# Altium footprint library HT3.96.PcbLib: 56 footprints (part 1 of 4)
Each footprint in its own frame and in the unit in brackets; x right, y up, seen from the top. Pads: shape width x height; smd on the part's side, far side on the other; paste and mask are expansions set on the pad; w line width, h text height; cw(c..) or ccw(c..) is an arc to the next point about the centre after c.
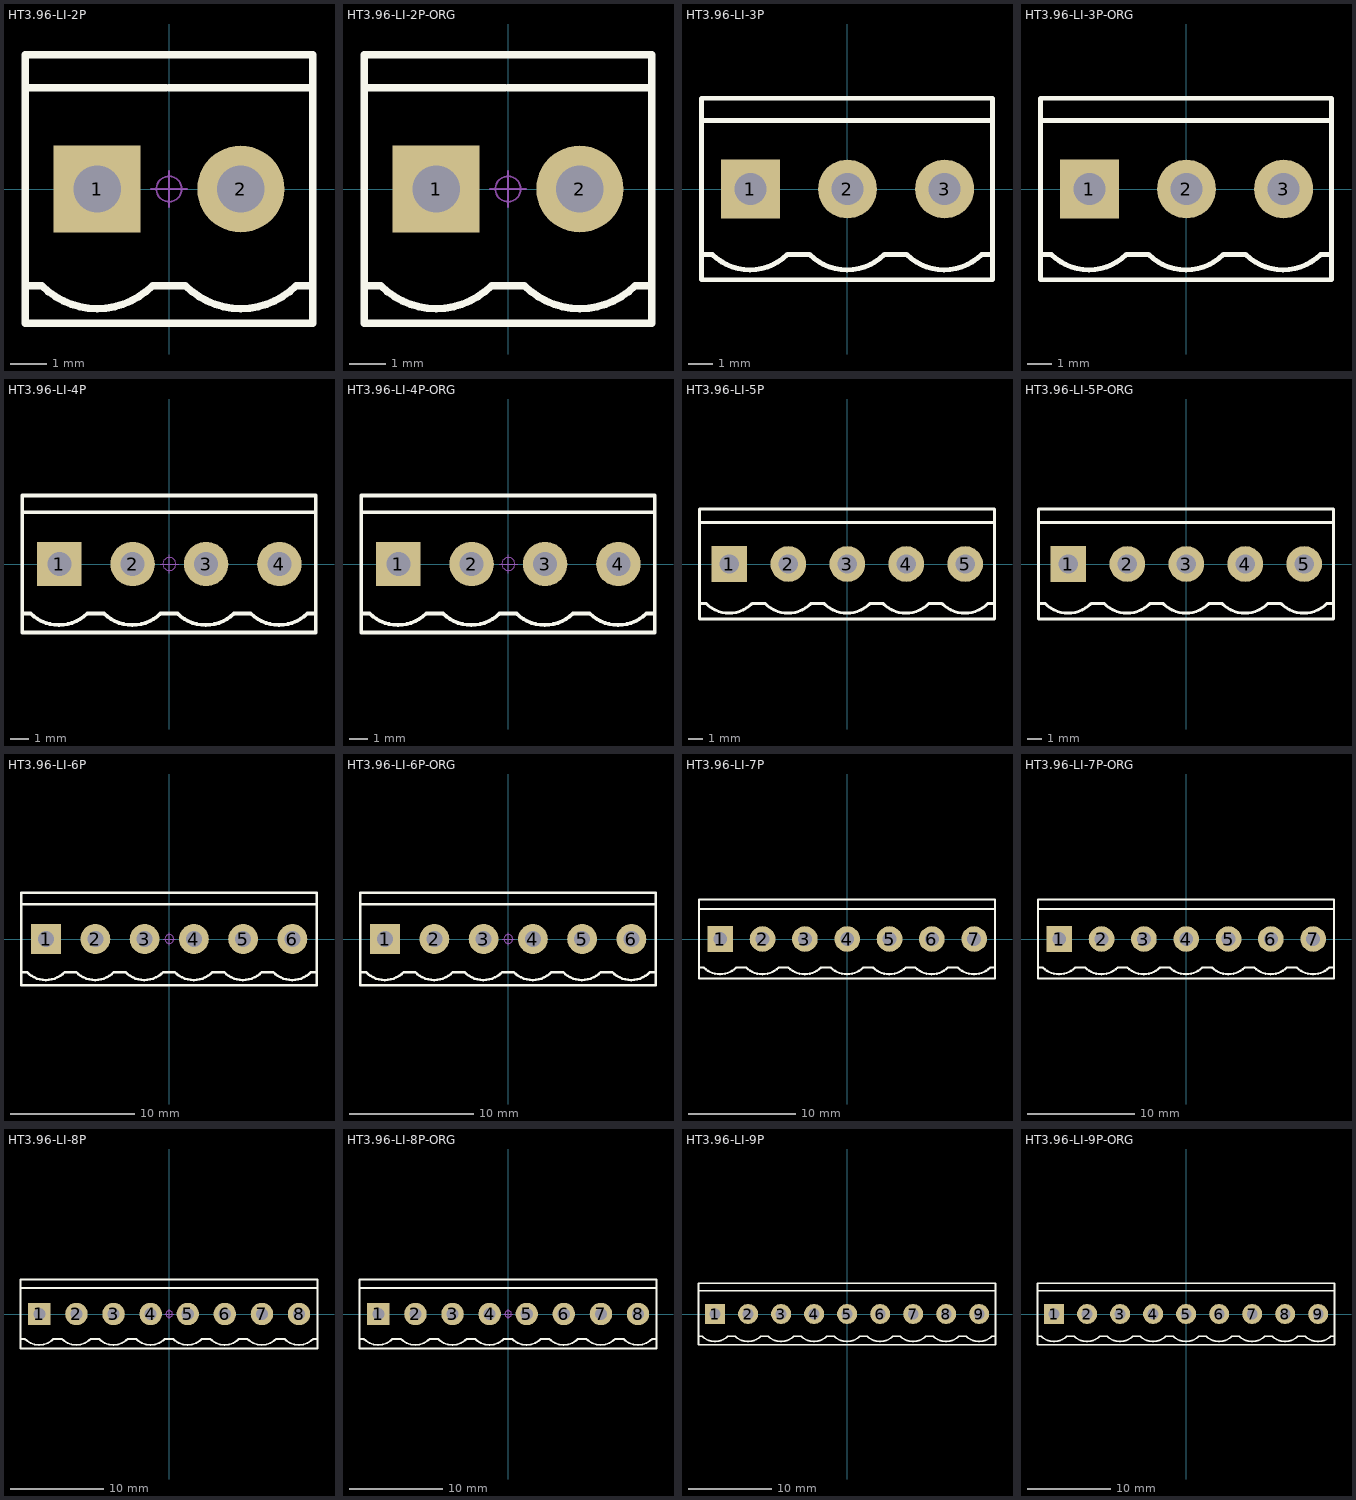
[diagram p0: the footprints below, top view; thin cyan lines are the x and y axes]

## HT3.96-LI-2P [mm] "HT3.96立插端子"
pads (2):
  rect 2.4x2.4 hole 1.3: 1(-1.98,0)
  round 2.4 hole 1.3: 2(1.98,0)
Top Overlay:
  lines w0.203: -3.96,-2.667 -3.504,-2.667 ccw(c-1.98,-1.143) -0.456,-2.667 0,-2.667 0.456,-2.667 ccw(c1.98,-1.143) 3.504,-2.667 3.96,-2.667 ; -3.96,2.794 -0.075,2.794 ; 0,2.794 3.885,2.794 ; -3.96,-3.7 0,-3.7 3.96,-3.7 3.96,3.7 0,3.7 -3.96,3.7 -3.96,-3.7
Mechanical 15:
  circle w0.05: c0,0 r0.35
  lines w0.05: -0.5,0 0.5,0 ; 0,-0.5 0,0.5
3D body "HT3.96-LI-1P.STEP": height 10.05, standoff -2.95, extent -3.98,-3.7 0.02,3.7
3D body "HT3.96-LI-1P.STEP": height 10.05, standoff -2.95, extent -0.02,-3.7 3.98,3.7

## HT3.96-LI-2P-ORG [mm] "HT3.96立插端子"
pads (2):
  rect 2.4x2.4 hole 1.3: 1(-1.98,0)
  round 2.4 hole 1.3: 2(1.98,0)
Top Overlay:
  lines w0.203: -3.96,-2.667 -3.504,-2.667 ccw(c-1.98,-1.143) -0.456,-2.667 0,-2.667 0.456,-2.667 ccw(c1.98,-1.143) 3.504,-2.667 3.96,-2.667 ; -3.96,2.794 -0.075,2.794 ; 0,2.794 3.885,2.794 ; -3.96,-3.7 0,-3.7 3.96,-3.7 3.96,3.7 0,3.7 -3.96,3.7 -3.96,-3.7
Mechanical 15:
  circle w0.05: c0,0 r0.35
  lines w0.05: -0.5,0 0.5,0 ; 0,-0.5 0,0.5
3D body "HT3.96-LI-1P-ORG.STEP": height 10.05, standoff -2.95, extent -3.98,-3.7 0.02,3.7
3D body "HT3.96-LI-1P-ORG.STEP": height 10.05, standoff -2.95, extent -0.02,-3.7 3.98,3.7

## HT3.96-LI-3P [mm] "HT3.96立插端子"
pads (3):
  rect 2.4x2.4 hole 1.3: 1(-3.96,0)
  round 2.4 hole 1.3: 2(0,0) 3(3.96,0)
Top Overlay:
  lines w0.203: -5.96,-2.667 -5.504,-2.667 ccw(c-3.98,-1.143) -2.456,-2.667 -2,-2.667 -1.544,-2.667 ccw(c-0.02,-1.143) 1.504,-2.667 1.96,-2.667 2.416,-2.667 ccw(c3.94,-1.143) 5.464,-2.667 5.92,-2.667 ; -5.96,2.794 -2.075,2.794 ; -2,2.794 1.885,2.794 ; 1.96,2.794 5.845,2.794 ; -5.96,-3.7 -2,-3.7 1.96,-3.7 5.92,-3.7 5.92,3.7 1.96,3.7 -2,3.7 -5.96,3.7 -5.96,-3.7
Mechanical 15:
  circle w0.05: c0,0 r0.35
  lines w0.05: -0.5,0 0.5,0 ; 0,-0.5 0,0.5
3D body "HT3.96-LI-1P.STEP": height 10.05, standoff -2.95, extent -5.96,-3.7 -1.96,3.7
3D body "HT3.96-LI-1P.STEP": height 10.05, standoff -2.95, extent -2,-3.7 2,3.7
3D body "HT3.96-LI-1P.STEP": height 10.05, standoff -2.95, extent 1.96,-3.7 5.96,3.7

## HT3.96-LI-3P-ORG [mm] "HT3.96立插端子"
pads (3):
  rect 2.4x2.4 hole 1.3: 1(-3.96,0)
  round 2.4 hole 1.3: 2(0,0) 3(3.96,0)
Top Overlay:
  lines w0.203: -5.96,-2.667 -5.504,-2.667 ccw(c-3.98,-1.143) -2.456,-2.667 -2,-2.667 -1.544,-2.667 ccw(c-0.02,-1.143) 1.504,-2.667 1.96,-2.667 2.416,-2.667 ccw(c3.94,-1.143) 5.464,-2.667 5.92,-2.667 ; -5.96,2.794 -2.075,2.794 ; -2,2.794 1.885,2.794 ; 1.96,2.794 5.845,2.794 ; -5.96,-3.7 -5.96,3.7 -2,3.7 1.96,3.7 5.92,3.7 5.92,-3.7 1.96,-3.7 -2,-3.7 -5.96,-3.7
Mechanical 15:
  circle w0.05: c0,0 r0.35
  lines w0.05: -0.5,0 0.5,0 ; 0,-0.5 0,0.5
3D body "HT3.96-LI-1P-ORG.STEP": height 10.05, standoff -2.95, extent 1.96,-3.7 5.96,3.7
3D body "HT3.96-LI-1P-ORG.STEP": height 10.05, standoff -2.95, extent -2,-3.7 2,3.7
3D body "HT3.96-LI-1P-ORG.STEP": height 10.05, standoff -2.95, extent -5.96,-3.7 -1.96,3.7

## HT3.96-LI-4P [mm] "HT3.96立插端子"
pads (4):
  rect 2.4x2.4 hole 1.3: 1(-5.94,0)
  round 2.4 hole 1.3: 2(-1.98,0) 3(1.98,0) 4(5.94,0)
Top Overlay:
  lines w0.203: -7.94,-2.667 -7.484,-2.667 ccw(c-5.96,-1.143) -4.436,-2.667 -3.98,-2.667 -3.524,-2.667 ccw(c-2,-1.143) -0.476,-2.667 -0.02,-2.667 0.436,-2.667 ccw(c1.96,-1.143) 3.484,-2.667 3.94,-2.667 4.396,-2.667 ccw(c5.92,-1.143) 7.444,-2.667 7.9,-2.667 ; -7.94,2.794 -4.055,2.794 ; -3.98,2.794 -0.095,2.794 ; -0.02,2.794 3.865,2.794 ; 3.94,2.794 7.825,2.794 ; -7.94,-3.7 -3.98,-3.7 -0.02,-3.7 3.94,-3.7 7.9,-3.7 7.9,3.7 3.94,3.7 -0.02,3.7 -3.98,3.7 -7.94,3.7 -7.94,-3.7
Mechanical 15:
  circle w0.05: c0,0 r0.35
  lines w0.05: -0.5,0 0.5,0 ; 0,-0.5 0,0.5
3D body "HT3.96-LI-1P.STEP": height 10.05, standoff -2.95, extent 3.94,-3.7 7.94,3.7
3D body "HT3.96-LI-1P.STEP": height 10.05, standoff -2.95, extent -0.02,-3.7 3.98,3.7
3D body "HT3.96-LI-1P.STEP": height 10.05, standoff -2.95, extent -3.98,-3.7 0.02,3.7
3D body "HT3.96-LI-1P.STEP": height 10.05, standoff -2.95, extent -7.94,-3.7 -3.94,3.7

## HT3.96-LI-4P-ORG [mm] "HT3.96立插端子"
pads (4):
  rect 2.4x2.4 hole 1.3: 1(-5.94,0)
  round 2.4 hole 1.3: 2(-1.98,0) 3(1.98,0) 4(5.94,0)
Top Overlay:
  lines w0.203: -7.94,-2.667 -7.484,-2.667 ccw(c-5.96,-1.143) -4.436,-2.667 -3.98,-2.667 -3.524,-2.667 ccw(c-2,-1.143) -0.476,-2.667 -0.02,-2.667 0.436,-2.667 ccw(c1.96,-1.143) 3.484,-2.667 3.94,-2.667 4.396,-2.667 ccw(c5.92,-1.143) 7.444,-2.667 7.9,-2.667 ; -7.94,2.794 -4.055,2.794 ; -3.98,2.794 -0.095,2.794 ; -0.02,2.794 3.865,2.794 ; 3.94,2.794 7.825,2.794 ; -7.94,-3.7 -3.98,-3.7 -0.02,-3.7 3.94,-3.7 7.9,-3.7 7.9,3.7 3.94,3.7 -0.02,3.7 -3.98,3.7 -7.94,3.7 -7.94,-3.7
Mechanical 15:
  circle w0.05: c0,0 r0.35
  lines w0.05: -0.5,0 0.5,0 ; 0,-0.5 0,0.5
3D body "HT3.96-LI-1P-ORG.STEP": height 10.05, standoff -2.95, extent 3.94,-3.7 7.94,3.7
3D body "HT3.96-LI-1P-ORG.STEP": height 10.05, standoff -2.95, extent -0.02,-3.7 3.98,3.7
3D body "HT3.96-LI-1P-ORG.STEP": height 10.05, standoff -2.95, extent -3.98,-3.7 0.02,3.7
3D body "HT3.96-LI-1P-ORG.STEP": height 10.05, standoff -2.95, extent -7.94,-3.7 -3.94,3.7

## HT3.96-LI-5P [mm] "HT3.96立插端子"
pads (5):
  rect 2.4x2.4 hole 1.3: 1(-7.92,0)
  round 2.4 hole 1.3: 2(-3.96,0) 3(0,0) 4(3.96,0) 5(7.92,0)
Top Overlay:
  lines w0.203: -9.92,-2.667 -9.464,-2.667 ccw(c-7.94,-1.143) -6.416,-2.667 -5.96,-2.667 -5.504,-2.667 ccw(c-3.98,-1.143) -2.456,-2.667 -2,-2.667 -1.544,-2.667 ccw(c-0.02,-1.143) 1.504,-2.667 1.96,-2.667 2.416,-2.667 ccw(c3.94,-1.143) 5.464,-2.667 5.92,-2.667 6.376,-2.667 ccw(c7.9,-1.143) 9.424,-2.667 9.88,-2.667 ; -9.92,2.794 -6.035,2.794 ; -5.96,2.794 -2.075,2.794 ; -2,2.794 1.885,2.794 ; 1.96,2.794 5.845,2.794 ; 5.92,2.794 9.805,2.794 ; -9.92,-3.7 -9.92,3.7 -5.96,3.7 -2,3.7 1.96,3.7 5.92,3.7 9.88,3.7 9.88,-3.7 5.92,-3.7 1.96,-3.7 -2,-3.7 -5.96,-3.7 -9.92,-3.7
Mechanical 15:
  circle w0.05: c0,0 r0.35
  lines w0.05: -0.5,0 0.5,0 ; 0,-0.5 0,0.5
3D body "HT3.96-LI-1P.STEP": height 10.05, standoff -2.95, extent 5.92,-3.7 9.92,3.7
3D body "HT3.96-LI-1P.STEP": height 10.05, standoff -2.95, extent 1.96,-3.7 5.96,3.7
3D body "HT3.96-LI-1P.STEP": height 10.05, standoff -2.95, extent -2,-3.7 2,3.7
3D body "HT3.96-LI-1P.STEP": height 10.05, standoff -2.95, extent -5.96,-3.7 -1.96,3.7
3D body "HT3.96-LI-1P.STEP": height 10.05, standoff -2.95, extent -9.92,-3.7 -5.92,3.7

## HT3.96-LI-5P-ORG [mm] "HT3.96立插端子"
pads (5):
  rect 2.4x2.4 hole 1.3: 1(-7.92,0)
  round 2.4 hole 1.3: 2(-3.96,0) 3(0,0) 4(3.96,0) 5(7.92,0)
Top Overlay:
  lines w0.203: -9.92,-2.667 -9.464,-2.667 ccw(c-7.94,-1.143) -6.416,-2.667 -5.96,-2.667 -5.504,-2.667 ccw(c-3.98,-1.143) -2.456,-2.667 -2,-2.667 -1.544,-2.667 ccw(c-0.02,-1.143) 1.504,-2.667 1.96,-2.667 2.416,-2.667 ccw(c3.94,-1.143) 5.464,-2.667 5.92,-2.667 6.376,-2.667 ccw(c7.9,-1.143) 9.424,-2.667 9.88,-2.667 ; -9.92,2.794 -6.035,2.794 ; -5.96,2.794 -2.075,2.794 ; -2,2.794 1.885,2.794 ; 1.96,2.794 5.845,2.794 ; 5.92,2.794 9.805,2.794 ; -9.92,-3.7 -5.96,-3.7 -2,-3.7 1.96,-3.7 5.92,-3.7 9.88,-3.7 9.88,3.7 5.92,3.7 1.96,3.7 -2,3.7 -5.96,3.7 -9.92,3.7 -9.92,-3.7
Mechanical 15:
  circle w0.05: c0,0 r0.35
  lines w0.05: -0.5,0 0.5,0 ; 0,-0.5 0,0.5
3D body "HT3.96-LI-1P-ORG.STEP": height 10.05, standoff -2.95, extent 5.92,-3.7 9.92,3.7
3D body "HT3.96-LI-1P-ORG.STEP": height 10.05, standoff -2.95, extent 1.96,-3.7 5.96,3.7
3D body "HT3.96-LI-1P-ORG.STEP": height 10.05, standoff -2.95, extent -2,-3.7 2,3.7
3D body "HT3.96-LI-1P-ORG.STEP": height 10.05, standoff -2.95, extent -5.96,-3.7 -1.96,3.7
3D body "HT3.96-LI-1P-ORG.STEP": height 10.05, standoff -2.95, extent -9.92,-3.7 -5.92,3.7

## HT3.96-LI-6P [mm] "HT3.96立插端子"
pads (6):
  rect 2.4x2.4 hole 1.3: 1(-9.9,0)
  round 2.4 hole 1.3: 2(-5.94,0) 3(-1.98,0) 4(1.98,0) 5(5.94,0) 6(9.9,0)
Top Overlay:
  lines w0.203: -11.9,-2.667 -11.444,-2.667 ccw(c-9.92,-1.143) -8.396,-2.667 -7.94,-2.667 -7.484,-2.667 ccw(c-5.96,-1.143) -4.436,-2.667 -3.98,-2.667 -3.524,-2.667 ccw(c-2,-1.143) -0.476,-2.667 -0.02,-2.667 0.436,-2.667 ccw(c1.96,-1.143) 3.484,-2.667 3.94,-2.667 4.396,-2.667 ccw(c5.92,-1.143) 7.444,-2.667 7.9,-2.667 8.356,-2.667 ccw(c9.88,-1.143) 11.404,-2.667 11.86,-2.667 ; -11.9,2.794 -8.015,2.794 ; -7.94,2.794 -4.055,2.794 ; -3.98,2.794 -0.095,2.794 ; -0.02,2.794 3.865,2.794 ; 3.94,2.794 7.825,2.794 ; 7.9,2.794 11.785,2.794 ; -11.9,-3.7 -11.9,3.7 -7.94,3.7 -3.98,3.7 -0.02,3.7 3.94,3.7 7.9,3.7 11.86,3.7 11.86,-3.7 7.9,-3.7 3.94,-3.7 -0.02,-3.7 -3.98,-3.7 -7.94,-3.7 -11.9,-3.7
Mechanical 15:
  circle w0.05: c0,0 r0.35
  lines w0.05: -0.5,0 0.5,0 ; 0,-0.5 0,0.5
3D body "HT3.96-LI-1P.STEP": height 10.05, standoff -2.95, extent 7.9,-3.7 11.9,3.7
3D body "HT3.96-LI-1P.STEP": height 10.05, standoff -2.95, extent 3.94,-3.7 7.94,3.7
3D body "HT3.96-LI-1P.STEP": height 10.05, standoff -2.95, extent -0.02,-3.7 3.98,3.7
3D body "HT3.96-LI-1P.STEP": height 10.05, standoff -2.95, extent -3.98,-3.7 0.02,3.7
3D body "HT3.96-LI-1P.STEP": height 10.05, standoff -2.95, extent -7.94,-3.7 -3.94,3.7
3D body "HT3.96-LI-1P.STEP": height 10.05, standoff -2.95, extent -11.9,-3.7 -7.9,3.7

## HT3.96-LI-6P-ORG [mm] "HT3.96立插端子"
pads (6):
  rect 2.4x2.4 hole 1.3: 1(-9.9,0)
  round 2.4 hole 1.3: 2(-5.94,0) 3(-1.98,0) 4(1.98,0) 5(5.94,0) 6(9.9,0)
Top Overlay:
  lines w0.203: -11.9,-2.667 -11.444,-2.667 ccw(c-9.92,-1.143) -8.396,-2.667 -7.94,-2.667 -7.484,-2.667 ccw(c-5.96,-1.143) -4.436,-2.667 -3.98,-2.667 -3.524,-2.667 ccw(c-2,-1.143) -0.476,-2.667 -0.02,-2.667 0.436,-2.667 ccw(c1.96,-1.143) 3.484,-2.667 3.94,-2.667 4.396,-2.667 ccw(c5.92,-1.143) 7.444,-2.667 7.9,-2.667 8.356,-2.667 ccw(c9.88,-1.143) 11.404,-2.667 11.86,-2.667 ; -11.9,2.794 -8.015,2.794 ; -7.94,2.794 -4.055,2.794 ; -3.98,2.794 -0.095,2.794 ; -0.02,2.794 3.865,2.794 ; 3.94,2.794 7.825,2.794 ; 7.9,2.794 11.785,2.794 ; -11.9,-3.7 -11.9,3.7 -7.94,3.7 -3.98,3.7 -0.02,3.7 3.94,3.7 7.9,3.7 11.86,3.7 11.86,-3.7 7.9,-3.7 3.94,-3.7 -0.02,-3.7 -3.98,-3.7 -7.94,-3.7 -11.9,-3.7
Mechanical 15:
  circle w0.05: c0,0 r0.35
  lines w0.05: -0.5,0 0.5,0 ; 0,-0.5 0,0.5
3D body "HT3.96-LI-1P-ORG.STEP": height 10.05, standoff -2.95, extent 7.9,-3.7 11.9,3.7
3D body "HT3.96-LI-1P-ORG.STEP": height 10.05, standoff -2.95, extent 3.94,-3.7 7.94,3.7
3D body "HT3.96-LI-1P-ORG.STEP": height 10.05, standoff -2.95, extent -0.02,-3.7 3.98,3.7
3D body "HT3.96-LI-1P-ORG.STEP": height 10.05, standoff -2.95, extent -3.98,-3.7 0.02,3.7
3D body "HT3.96-LI-1P-ORG.STEP": height 10.05, standoff -2.95, extent -7.94,-3.7 -3.94,3.7
3D body "HT3.96-LI-1P-ORG.STEP": height 10.05, standoff -2.95, extent -11.9,-3.7 -7.9,3.7

## HT3.96-LI-7P [mm] "HT3.96立插端子"
pads (7):
  rect 2.4x2.4 hole 1.3: 1(-11.88,0)
  round 2.4 hole 1.3: 2(-7.92,0) 3(-3.96,0) 4(0,0) 5(3.96,0) 6(7.92,0) 7(11.88,0)
Top Overlay:
  lines w0.203: -13.88,-2.667 -13.424,-2.667 ccw(c-11.9,-1.143) -10.376,-2.667 -9.92,-2.667 -9.464,-2.667 ccw(c-7.94,-1.143) -6.416,-2.667 -5.96,-2.667 -5.504,-2.667 ccw(c-3.98,-1.143) -2.456,-2.667 -2,-2.667 -1.544,-2.667 ccw(c-0.02,-1.143) 1.504,-2.667 1.96,-2.667 2.416,-2.667 ccw(c3.94,-1.143) 5.464,-2.667 5.92,-2.667 6.376,-2.667 ccw(c7.9,-1.143) 9.424,-2.667 9.88,-2.667 10.336,-2.667 ccw(c11.86,-1.143) 13.384,-2.667 13.84,-2.667 ; -13.88,2.794 -9.995,2.794 ; -9.92,2.794 -6.035,2.794 ; -5.96,2.794 -2.075,2.794 ; -2,2.794 1.885,2.794 ; 1.96,2.794 5.845,2.794 ; 5.92,2.794 9.805,2.794 ; 9.88,2.794 13.765,2.794 ; -13.88,-3.7 -13.88,3.7 -9.92,3.7 -5.96,3.7 -2,3.7 1.96,3.7 5.92,3.7 9.88,3.7 13.84,3.7 13.84,-3.7 9.88,-3.7 5.92,-3.7 1.96,-3.7 -2,-3.7 -5.96,-3.7 -9.92,-3.7 -13.88,-3.7
Mechanical 15:
  circle w0.05: c0,0 r0.35
  lines w0.05: -0.5,0 0.5,0 ; 0,-0.5 0,0.5
3D body "HT3.96-LI-1P.STEP": height 10.05, standoff -2.95, extent -13.88,-3.7 -9.88,3.7
3D body "HT3.96-LI-1P.STEP": height 10.05, standoff -2.95, extent -9.92,-3.7 -5.92,3.7
3D body "HT3.96-LI-1P.STEP": height 10.05, standoff -2.95, extent -5.96,-3.7 -1.96,3.7
3D body "HT3.96-LI-1P.STEP": height 10.05, standoff -2.95, extent -2,-3.7 2,3.7
3D body "HT3.96-LI-1P.STEP": height 10.05, standoff -2.95, extent 1.96,-3.7 5.96,3.7
3D body "HT3.96-LI-1P.STEP": height 10.05, standoff -2.95, extent 9.88,-3.7 13.88,3.7
3D body "HT3.96-LI-1P.STEP": height 10.05, standoff -2.95, extent 5.92,-3.7 9.92,3.7

## HT3.96-LI-7P-ORG [mm] "HT3.96立插端子"
pads (7):
  rect 2.4x2.4 hole 1.3: 1(-11.88,0)
  round 2.4 hole 1.3: 2(-7.92,0) 3(-3.96,0) 4(0,0) 5(3.96,0) 6(7.92,0) 7(11.88,0)
Top Overlay:
  lines w0.203: -13.88,-2.667 -13.424,-2.667 ccw(c-11.9,-1.143) -10.376,-2.667 -9.92,-2.667 -9.464,-2.667 ccw(c-7.94,-1.143) -6.416,-2.667 -5.96,-2.667 -5.504,-2.667 ccw(c-3.98,-1.143) -2.456,-2.667 -2,-2.667 -1.544,-2.667 ccw(c-0.02,-1.143) 1.504,-2.667 1.96,-2.667 2.416,-2.667 ccw(c3.94,-1.143) 5.464,-2.667 5.92,-2.667 6.376,-2.667 ccw(c7.9,-1.143) 9.424,-2.667 9.88,-2.667 10.336,-2.667 ccw(c11.86,-1.143) 13.384,-2.667 13.84,-2.667 ; -13.88,2.794 -9.995,2.794 ; -9.92,2.794 -6.035,2.794 ; -5.96,2.794 -2.075,2.794 ; -2,2.794 1.885,2.794 ; 1.96,2.794 5.845,2.794 ; 5.92,2.794 9.805,2.794 ; 9.88,2.794 13.765,2.794 ; -13.88,-3.7 -9.92,-3.7 -5.96,-3.7 -2,-3.7 1.96,-3.7 5.92,-3.7 9.88,-3.7 13.84,-3.7 13.84,3.7 9.88,3.7 5.92,3.7 1.96,3.7 -2,3.7 -5.96,3.7 -9.92,3.7 -13.88,3.7 -13.88,-3.7
Mechanical 15:
  circle w0.05: c0,0 r0.35
  lines w0.05: -0.5,0 0.5,0 ; 0,-0.5 0,0.5
3D body "HT3.96-LI-1P-ORG.STEP": height 10.05, standoff -2.95, extent -13.88,-3.7 -9.88,3.7
3D body "HT3.96-LI-1P-ORG.STEP": height 10.05, standoff -2.95, extent -9.92,-3.7 -5.92,3.7
3D body "HT3.96-LI-1P-ORG.STEP": height 10.05, standoff -2.95, extent -5.96,-3.7 -1.96,3.7
3D body "HT3.96-LI-1P-ORG.STEP": height 10.05, standoff -2.95, extent -2,-3.7 2,3.7
3D body "HT3.96-LI-1P-ORG.STEP": height 10.05, standoff -2.95, extent 1.96,-3.7 5.96,3.7
3D body "HT3.96-LI-1P-ORG.STEP": height 10.05, standoff -2.95, extent 5.92,-3.7 9.92,3.7
3D body "HT3.96-LI-1P-ORG.STEP": height 10.05, standoff -2.95, extent 9.88,-3.7 13.88,3.7

## HT3.96-LI-8P [mm] "HT3.96立插端子"
pads (8):
  rect 2.4x2.4 hole 1.3: 1(-13.86,0)
  round 2.4 hole 1.3: 2(-9.9,0) 3(-5.94,0) 4(-1.98,0) 5(1.98,0) 6(5.94,0) 7(9.9,0) 8(13.86,0)
Top Overlay:
  lines w0.203: -15.86,-2.667 -15.404,-2.667 ccw(c-13.88,-1.143) -12.356,-2.667 -11.9,-2.667 -11.444,-2.667 ccw(c-9.92,-1.143) -8.396,-2.667 -7.94,-2.667 -7.484,-2.667 ccw(c-5.96,-1.143) -4.436,-2.667 -3.98,-2.667 -3.524,-2.667 ccw(c-2,-1.143) -0.476,-2.667 -0.02,-2.667 0.436,-2.667 ccw(c1.96,-1.143) 3.484,-2.667 3.94,-2.667 4.396,-2.667 ccw(c5.92,-1.143) 7.444,-2.667 7.9,-2.667 8.356,-2.667 ccw(c9.88,-1.143) 11.404,-2.667 11.86,-2.667 12.316,-2.667 ccw(c13.84,-1.143) 15.364,-2.667 15.82,-2.667 ; -15.86,2.794 -11.975,2.794 ; -11.9,2.794 -8.015,2.794 ; -7.94,2.794 -4.055,2.794 ; -3.98,2.794 -0.095,2.794 ; -0.02,2.794 3.865,2.794 ; 3.94,2.794 7.825,2.794 ; 7.9,2.794 11.785,2.794 ; 11.86,2.794 15.745,2.794 ; -15.86,-3.7 -15.86,3.7 -11.9,3.7 -7.94,3.7 -3.98,3.7 -0.02,3.7 3.94,3.7 7.9,3.7 11.86,3.7 15.82,3.7 15.82,-3.7 11.86,-3.7 7.9,-3.7 3.94,-3.7 -0.02,-3.7 -3.98,-3.7 -7.94,-3.7 -11.9,-3.7 -15.86,-3.7
Mechanical 15:
  circle w0.05: c0,0 r0.35
  lines w0.05: -0.5,0 0.5,0 ; 0,-0.5 0,0.5
3D body "HT3.96-LI-1P.STEP": height 10.05, standoff -2.95, extent -15.86,-3.7 -11.86,3.7
3D body "HT3.96-LI-1P.STEP": height 10.05, standoff -2.95, extent -11.9,-3.7 -7.9,3.7
3D body "HT3.96-LI-1P.STEP": height 10.05, standoff -2.95, extent -7.94,-3.7 -3.94,3.7
3D body "HT3.96-LI-1P.STEP": height 10.05, standoff -2.95, extent -3.98,-3.7 0.02,3.7
3D body "HT3.96-LI-1P.STEP": height 10.05, standoff -2.95, extent -0.02,-3.7 3.98,3.7
3D body "HT3.96-LI-1P.STEP": height 10.05, standoff -2.95, extent 3.94,-3.7 7.94,3.7
3D body "HT3.96-LI-1P.STEP": height 10.05, standoff -2.95, extent 11.86,-3.7 15.86,3.7
3D body "HT3.96-LI-1P.STEP": height 10.05, standoff -2.95, extent 7.9,-3.7 11.9,3.7

## HT3.96-LI-8P-ORG [mm] "HT3.96立插端子"
pads (8):
  rect 2.4x2.4 hole 1.3: 1(-13.86,0)
  round 2.4 hole 1.3: 2(-9.9,0) 3(-5.94,0) 4(-1.98,0) 5(1.98,0) 6(5.94,0) 7(9.9,0) 8(13.86,0)
Top Overlay:
  lines w0.203: -15.86,-2.667 -15.404,-2.667 ccw(c-13.88,-1.143) -12.356,-2.667 -11.9,-2.667 -11.444,-2.667 ccw(c-9.92,-1.143) -8.396,-2.667 -7.94,-2.667 -7.484,-2.667 ccw(c-5.96,-1.143) -4.436,-2.667 -3.98,-2.667 -3.524,-2.667 ccw(c-2,-1.143) -0.476,-2.667 -0.02,-2.667 0.436,-2.667 ccw(c1.96,-1.143) 3.484,-2.667 3.94,-2.667 4.396,-2.667 ccw(c5.92,-1.143) 7.444,-2.667 7.9,-2.667 8.356,-2.667 ccw(c9.88,-1.143) 11.404,-2.667 11.86,-2.667 12.316,-2.667 ccw(c13.84,-1.143) 15.364,-2.667 15.82,-2.667 ; -15.86,2.794 -11.975,2.794 ; -11.9,2.794 -8.015,2.794 ; -7.94,2.794 -4.055,2.794 ; -3.98,2.794 -0.095,2.794 ; -0.02,2.794 3.865,2.794 ; 3.94,2.794 7.825,2.794 ; 7.9,2.794 11.785,2.794 ; 11.86,2.794 15.745,2.794 ; -15.86,-3.7 -15.86,3.7 -11.9,3.7 -7.94,3.7 -3.98,3.7 -0.02,3.7 3.94,3.7 7.9,3.7 11.86,3.7 15.82,3.7 15.82,-3.7 11.86,-3.7 7.9,-3.7 3.94,-3.7 -0.02,-3.7 -3.98,-3.7 -7.94,-3.7 -11.9,-3.7 -15.86,-3.7
Mechanical 15:
  circle w0.05: c0,0 r0.35
  lines w0.05: -0.5,0 0.5,0 ; 0,-0.5 0,0.5
3D body "HT3.96-LI-1P-ORG.STEP": height 10.05, standoff -2.95, extent 11.86,-3.7 15.86,3.7
3D body "HT3.96-LI-1P-ORG.STEP": height 10.05, standoff -2.95, extent 7.9,-3.7 11.9,3.7
3D body "HT3.96-LI-1P-ORG.STEP": height 10.05, standoff -2.95, extent 3.94,-3.7 7.94,3.7
3D body "HT3.96-LI-1P-ORG.STEP": height 10.05, standoff -2.95, extent -0.02,-3.7 3.98,3.7
3D body "HT3.96-LI-1P-ORG.STEP": height 10.05, standoff -2.95, extent -3.98,-3.7 0.02,3.7
3D body "HT3.96-LI-1P-ORG.STEP": height 10.05, standoff -2.95, extent -7.94,-3.7 -3.94,3.7
3D body "HT3.96-LI-1P-ORG.STEP": height 10.05, standoff -2.95, extent -11.9,-3.7 -7.9,3.7
3D body "HT3.96-LI-1P-ORG.STEP": height 10.05, standoff -2.95, extent -15.86,-3.7 -11.86,3.7

## HT3.96-LI-9P [mm] "HT3.96立插端子"
pads (9):
  rect 2.4x2.4 hole 1.3: 1(-15.84,0)
  round 2.4 hole 1.3: 2(-11.88,0) 3(-7.92,0) 4(-3.96,0) 5(0,0) 6(3.96,0) 7(7.92,0) 8(11.88,0) 9(15.84,0)
Top Overlay:
  lines w0.203: -17.84,-2.667 -17.384,-2.667 ccw(c-15.86,-1.143) -14.336,-2.667 ; -17.84,2.794 -13.955,2.794 ; -13.88,2.794 -9.995,2.794 ; -9.92,2.794 -6.035,2.794 ; -5.96,2.794 -2.075,2.794 ; -2,2.794 1.885,2.794 ; 1.96,2.794 5.845,2.794 ; 5.92,2.794 9.805,2.794 ; 9.88,2.794 13.765,2.794 ; 13.84,2.794 17.725,2.794 ; 17.8,-2.667 17.344,-2.667 cw(c15.82,-1.143) 14.296,-2.667 ; -14.336,-2.667 -13.88,-2.667 ; -14.336,-2.667 -13.88,-2.667 ; -13.88,-2.667 -13.424,-2.667 ; -13.88,-2.667 -13.424,-2.667 ; -13.424,-2.667 ccw(c-11.9,-1.143) -10.376,-2.667 ; -10.376,-2.667 -9.92,-2.667 ; -10.376,-2.667 -9.92,-2.667 ; -9.92,-2.667 -9.464,-2.667 ; -9.92,-2.667 -9.464,-2.667 ; -9.464,-2.667 ccw(c-7.94,-1.143) -6.416,-2.667 ; -6.416,-2.667 -5.96,-2.667 ; -6.416,-2.667 -5.96,-2.667 ; -5.96,-2.667 -5.504,-2.667 ; -5.96,-2.667 -5.504,-2.667 ; -5.504,-2.667 ccw(c-3.98,-1.143) -2.456,-2.667 ; -2.456,-2.667 -2,-2.667 ; -2.456,-2.667 -2,-2.667 ; -2,-2.667 -1.544,-2.667 ; -2,-2.667 -1.544,-2.667 ; -1.544,-2.667 ccw(c-0.02,-1.143) 1.504,-2.667 ; 1.504,-2.667 1.96,-2.667 ; 1.504,-2.667 1.96,-2.667 ; 1.96,-2.667 2.416,-2.667 ; 1.96,-2.667 2.416,-2.667 ; 2.416,-2.667 ccw(c3.94,-1.143) 5.464,-2.667 ; 5.464,-2.667 5.92,-2.667 ; 5.464,-2.667 5.92,-2.667 ; 5.92,-2.667 6.376,-2.667 ; 5.92,-2.667 6.376,-2.667 ; 6.376,-2.667 ccw(c7.9,-1.143) 9.424,-2.667 ; 9.424,-2.667 9.88,-2.667 ; 9.424,-2.667 9.88,-2.667 ; 9.88,-2.667 10.336,-2.667 ; 9.88,-2.667 10.336,-2.667 ; 10.336,-2.667 ccw(c11.86,-1.143) 13.384,-2.667 ; 13.384,-2.667 13.84,-2.667 ; 13.384,-2.667 13.84,-2.667 ; 13.84,-2.667 14.296,-2.667 ; 13.84,-2.667 14.296,-2.667 ; -17.84,-3.7 -17.84,3.7 -13.88,3.7 -9.92,3.7 -5.96,3.7 -2,3.7 1.96,3.7 5.92,3.7 9.88,3.7 13.84,3.7 17.8,3.7 17.8,-3.7 13.84,-3.7 9.88,-3.7 5.92,-3.7 1.96,-3.7 -2,-3.7 -5.96,-3.7 -9.92,-3.7 -13.88,-3.7 -17.84,-3.7
Mechanical 15:
  circle w0.05: c0,0 r0.35
  lines w0.05: -0.5,0 0.5,0 ; 0,-0.5 0,0.5
3D body "HT3.96-LI-1P.STEP": height 10.05, standoff -2.95, extent -17.84,-3.7 -13.84,3.7
3D body "HT3.96-LI-1P.STEP": height 10.05, standoff -2.95, extent -13.88,-3.7 -9.88,3.7
3D body "HT3.96-LI-1P.STEP": height 10.05, standoff -2.95, extent -9.92,-3.7 -5.92,3.7
3D body "HT3.96-LI-1P.STEP": height 10.05, standoff -2.95, extent -5.96,-3.7 -1.96,3.7
3D body "HT3.96-LI-1P.STEP": height 10.05, standoff -2.95, extent -2,-3.7 2,3.7
3D body "HT3.96-LI-1P.STEP": height 10.05, standoff -2.95, extent 1.96,-3.7 5.96,3.7
3D body "HT3.96-LI-1P.STEP": height 10.05, standoff -2.95, extent 5.92,-3.7 9.92,3.7
3D body "HT3.96-LI-1P.STEP": height 10.05, standoff -2.95, extent 9.88,-3.7 13.88,3.7
3D body "HT3.96-LI-1P.STEP": height 10.05, standoff -2.95, extent 13.84,-3.7 17.84,3.7

## HT3.96-LI-9P-ORG [mm] "HT3.96立插端子"
pads (9):
  rect 2.4x2.4 hole 1.3: 1(-15.84,0)
  round 2.4 hole 1.3: 2(-11.88,0) 3(-7.92,0) 4(-3.96,0) 5(0,0) 6(3.96,0) 7(7.92,0) 8(11.88,0) 9(15.84,0)
Top Overlay:
  lines w0.203: -17.84,-2.667 -17.384,-2.667 ccw(c-15.86,-1.143) -14.336,-2.667 ; -17.84,2.794 -13.955,2.794 ; -13.88,2.794 -9.995,2.794 ; -9.92,2.794 -6.035,2.794 ; -5.96,2.794 -2.075,2.794 ; -2,2.794 1.885,2.794 ; 1.96,2.794 5.845,2.794 ; 5.92,2.794 9.805,2.794 ; 9.88,2.794 13.765,2.794 ; 13.84,2.794 17.725,2.794 ; 17.8,-2.667 17.344,-2.667 cw(c15.82,-1.143) 14.296,-2.667 ; -14.336,-2.667 -13.88,-2.667 ; -14.336,-2.667 -13.88,-2.667 ; -13.88,-2.667 -13.424,-2.667 ; -13.88,-2.667 -13.424,-2.667 ; -13.424,-2.667 ccw(c-11.9,-1.143) -10.376,-2.667 ; -10.376,-2.667 -9.92,-2.667 ; -10.376,-2.667 -9.92,-2.667 ; -9.92,-2.667 -9.464,-2.667 ; -9.92,-2.667 -9.464,-2.667 ; -9.464,-2.667 ccw(c-7.94,-1.143) -6.416,-2.667 ; -6.416,-2.667 -5.96,-2.667 ; -6.416,-2.667 -5.96,-2.667 ; -5.96,-2.667 -5.504,-2.667 ; -5.96,-2.667 -5.504,-2.667 ; -5.504,-2.667 ccw(c-3.98,-1.143) -2.456,-2.667 ; -2.456,-2.667 -2,-2.667 ; -2.456,-2.667 -2,-2.667 ; -2,-2.667 -1.544,-2.667 ; -2,-2.667 -1.544,-2.667 ; -1.544,-2.667 ccw(c-0.02,-1.143) 1.504,-2.667 ; 1.504,-2.667 1.96,-2.667 ; 1.504,-2.667 1.96,-2.667 ; 1.96,-2.667 2.416,-2.667 ; 1.96,-2.667 2.416,-2.667 ; 2.416,-2.667 ccw(c3.94,-1.143) 5.464,-2.667 ; 5.464,-2.667 5.92,-2.667 ; 5.464,-2.667 5.92,-2.667 ; 5.92,-2.667 6.376,-2.667 ; 5.92,-2.667 6.376,-2.667 ; 6.376,-2.667 ccw(c7.9,-1.143) 9.424,-2.667 ; 9.424,-2.667 9.88,-2.667 ; 9.424,-2.667 9.88,-2.667 ; 9.88,-2.667 10.336,-2.667 ; 9.88,-2.667 10.336,-2.667 ; 10.336,-2.667 ccw(c11.86,-1.143) 13.384,-2.667 ; 13.384,-2.667 13.84,-2.667 ; 13.384,-2.667 13.84,-2.667 ; 13.84,-2.667 14.296,-2.667 ; 13.84,-2.667 14.296,-2.667 ; -17.84,-3.7 -17.84,3.7 -13.88,3.7 -9.92,3.7 -5.96,3.7 -2,3.7 1.96,3.7 5.92,3.7 9.88,3.7 13.84,3.7 17.8,3.7 17.8,-3.7 13.84,-3.7 9.88,-3.7 5.92,-3.7 1.96,-3.7 -2,-3.7 -5.96,-3.7 -9.92,-3.7 -13.88,-3.7 -17.84,-3.7
Mechanical 15:
  circle w0.05: c0,0 r0.35
  lines w0.05: -0.5,0 0.5,0 ; 0,-0.5 0,0.5
3D body "HT3.96-LI-1P-ORG.STEP": height 10.05, standoff -2.95, extent 13.84,-3.7 17.84,3.7
3D body "HT3.96-LI-1P-ORG.STEP": height 10.05, standoff -2.95, extent 9.88,-3.7 13.88,3.7
3D body "HT3.96-LI-1P-ORG.STEP": height 10.05, standoff -2.95, extent 5.92,-3.7 9.92,3.7
3D body "HT3.96-LI-1P-ORG.STEP": height 10.05, standoff -2.95, extent 1.96,-3.7 5.96,3.7
3D body "HT3.96-LI-1P-ORG.STEP": height 10.05, standoff -2.95, extent -2,-3.7 2,3.7
3D body "HT3.96-LI-1P-ORG.STEP": height 10.05, standoff -2.95, extent -5.96,-3.7 -1.96,3.7
3D body "HT3.96-LI-1P-ORG.STEP": height 10.05, standoff -2.95, extent -9.92,-3.7 -5.92,3.7
3D body "HT3.96-LI-1P-ORG.STEP": height 10.05, standoff -2.95, extent -13.88,-3.7 -9.88,3.7
3D body "HT3.96-LI-1P-ORG.STEP": height 10.05, standoff -2.95, extent -17.84,-3.7 -13.84,3.7